# EAGLE library part 2587-MICROSD (library co-pololu)
Pololu #2587 MicroSD Card breakout board https://www.pololu.com/product/2587
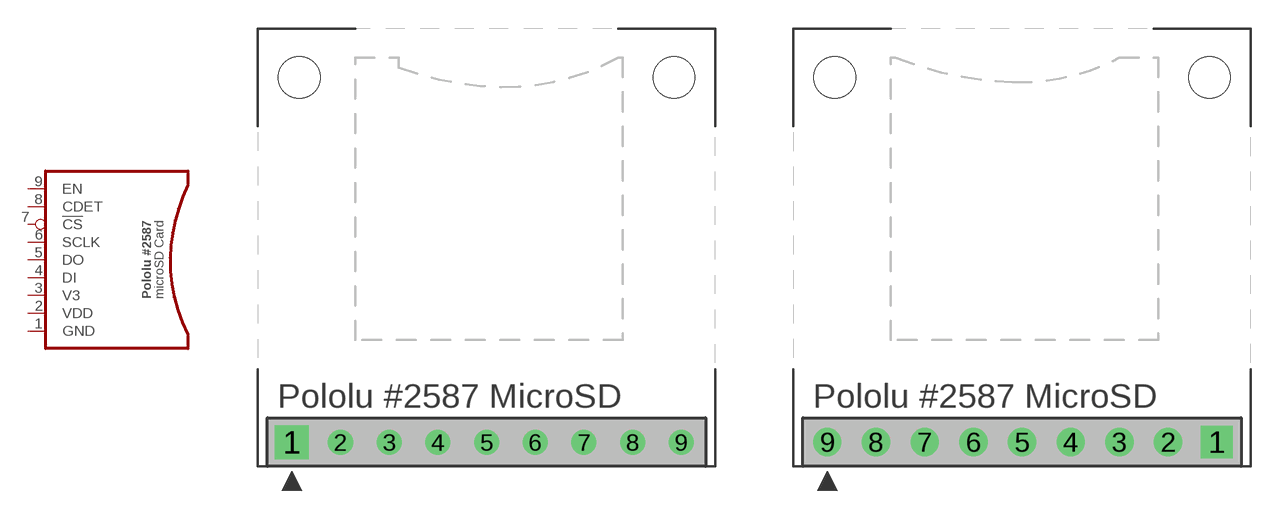
[diagram p2: symbol with the pads of POLOLU-2587-SDCARD; footprints POLOLU-2587-SDCARD, POLOLU-2587-SDCARD-FLIPPED]

Designator prefix SDCARD

## 2587-MICROSD-COMP-EXPOSED (MFR: Pololu; VALUE: 2587)  [POLOLU-2587-SDCARD]
1  GND  in
2  VDD  in
3  V3  out
4  DI  in
5  DO  out
6  SCLK  in
7  !CS  in
8  CDET  out
9  EN  in

## 2587-MICROSD-LOGO-UP (MFR: Pololu; VALUE: 2587)  [POLOLU-2587-SDCARD-FLIPPED]
Pads as for POLOLU-2587-SDCARD

## Footprint POLOLU-2587-SDCARD (pad centres in mm)
Pololu #2587 microSD Card Breakout Board (components exposed when mounted)
drill 0.8 pad 1.778 square: 1 -10.16,1.27
drill 0.8: 2 -7.62,1.27; 3 -5.08,1.27; 4 -2.54,1.27; 5 0,1.27; 6 2.54,1.27; 7 5.08,1.27; 8 7.62,1.27; 9 10.16,1.27
hole 2.184 at -9.779,20.32
hole 2.184 at 9.779,20.32

## Footprint POLOLU-2587-SDCARD-FLIPPED (pad centres in mm)
Pololu #2587 microSD Card Breakout Board (components hidden when mounted, logo up)
drill 0.965 pad 1.676 square: 1 10.16,1.27
drill 0.965: 2 7.62,1.27; 3 5.08,1.27; 4 2.54,1.27; 5 0,1.27; 6 -2.54,1.27; 7 -5.08,1.27; 8 -7.62,1.27; 9 -10.16,1.27
hole 2.184 at -9.779,20.32
hole 2.184 at 9.779,20.32